# EAGLE library part W65C02SP (library logik)
Western Digital Version
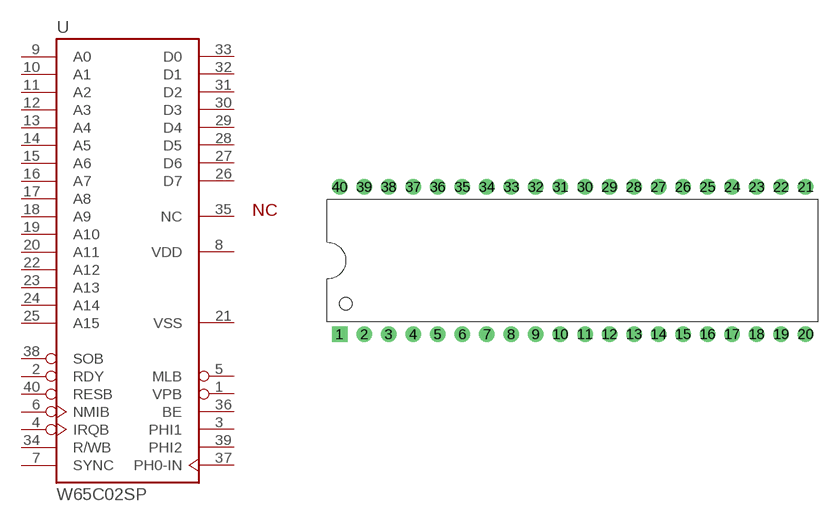
[diagram p7: symbol with the pads of DIP-40; footprint DIP-40]

Designator prefix U

## W65C02SP  [DIP-40]
1  VPB  out
2  RDY
3  PHI1  out
4  IRQB  in
5  MLB  out
6  NMIB  in
7  SYNC  out
8  VDD  pwr
9  A0
10  A1
11  A2
12  A3
13  A4
14  A5
15  A6
16  A7
17  A8
18  A9
19  A10
20  A11
21  VSS  sup
22  A12
23  A13
24  A14
25  A15
26  D7
27  D6
28  D5
29  D4
30  D3
31  D2
32  D1
33  D0
34  R/WB  out
35  NC  nc
36  BE  in
37  PH0-IN  in
38  SOB  in
39  PHI2  out
40  RESB  in

## Footprint DIP-40 (pad centres in mm)
40-Pin DIP, 0.6" Wide
drill 0.889 pad 1.6 square: 1 -22.86,-7.62
drill 0.889 pad 1.6: 2 -20.32,-7.62; 3 -17.78,-7.62; 4 -15.24,-7.62; 5 -12.7,-7.62; 6 -10.16,-7.62; 7 -7.62,-7.62; 8 -5.08,-7.62; 9 -2.54,-7.62; 10 0,-7.62; 11 2.54,-7.62; 12 5.08,-7.62; 13 7.62,-7.62; 14 10.16,-7.62; 15 12.7,-7.62; 16 15.24,-7.62; 17 17.78,-7.62; 18 20.32,-7.62; 19 22.86,-7.62; 20 25.4,-7.62; 21 25.4,7.62; 22 22.86,7.62; 23 20.32,7.62; 24 17.78,7.62; 25 15.24,7.62; 26 12.7,7.62; 27 10.16,7.62; 28 7.62,7.62; 29 5.08,7.62; 30 2.54,7.62; 31 0,7.62; 32 -2.54,7.62; 33 -5.08,7.62; 34 -7.62,7.62; 35 -10.16,7.62; 36 -12.7,7.62; 37 -15.24,7.62; 38 -17.78,7.62; 39 -20.32,7.62; 40 -22.86,7.62